# Altium schematic symbol library RES 10.0 1_8W - 1%.Schlib: 1 symbol
Pins are listed as number, name and electrical type; pins without a type are passive.

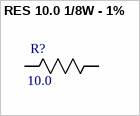
[diagram p0: symbol RES 10.0 1/8W - 1%]

## RES 10.0 1/8W - 1%
designator R?, comment 10.0
RES SMD 10.0 OHM 1% 1/8W 0805; Power (Watts): 0.125W; Package: 0805; Value: 10.0; Tolerance: 1%
footprint 0805
footprint 0603
pins: 1 R1, 2 R2